# EAGLE library part CAT25M01 (library ICs)
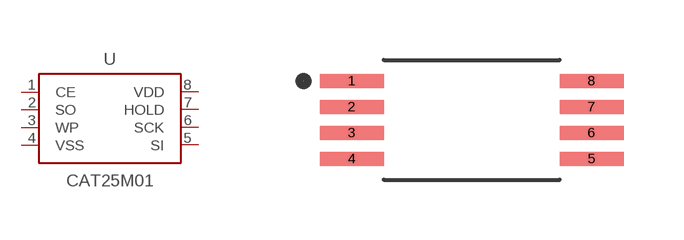
[diagram p31: symbol with the pads of TSSOP-8; footprint TSSOP-8]

Designator prefix U

## CAT25M01 (MFG: ONSEMI; PN: CAT25M01YI-GT3)  [TSSOP-8]
1  CE
2  SO
3  WP
4  VSS  pwr
5  SI
6  SCK
7  HOLD
8  VDD  pwr

## Footprint TSSOP-8 (pad centres in mm)
smd 1.6 x 0.35: 1 -3,0.975; 2 -3,0.325; 3 -3,-0.325; 4 -3,-0.975; 5 3,-0.975; 6 3,-0.325; 7 3,0.325; 8 3,0.975